# EAGLE library part 662012236022 (library Wire_to_Board_Connectors_rev15d)
WR-MPC3 3.00mm Male Dual Row SMT Angled Header with Plastic Pegs, 12 Pins=>Code : Con_WTB_MPC3_2_PCB_SMT_662012236022 <http://katalog.we-online.de/media/thumbs2/eican/thb_Con_WTB_MPC3_2_PCB_SMT_6620xx236022_pf2.jpg> Details see: http://katalog.we-online.de/en/em/662_0xx_236_022 Created 2014-06-06, Karrer Zheng 2014 (C) Würth Elektronik
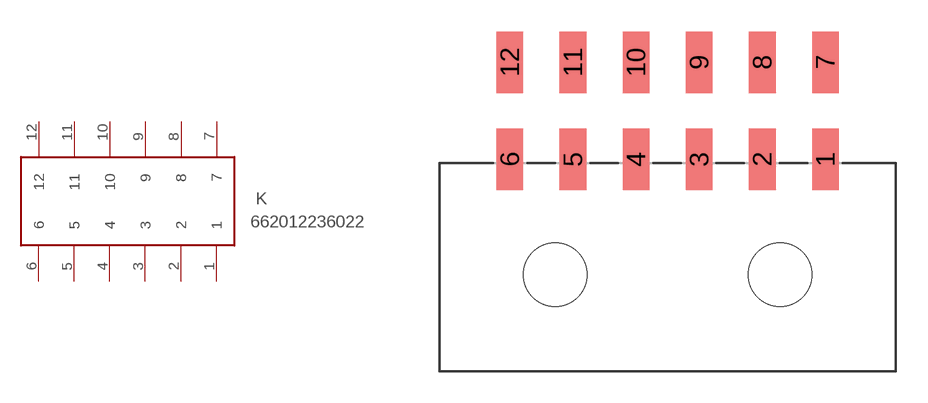
[diagram p366: symbol with the pads of 662012236022; footprint 662012236022]

Designator prefix K

## 662012236022  [662012236022]
1  1  pas
2  2  pas
3  3  pas
4  4  pas
5  5  pas
6  6  pas
7  7  hiz
8  8  pas
9  9  pas
10  10  pas
11  11  pas
12  12  pas

## Footprint 662012236022 (pad centres in mm)
WR-MPC3 3.00mm Male Dual Row SMT Angled Header with Plastic Pegs, 12 Pins
smd 1.27 x 2.92: 1 7.5,5.48; 2 4.5,5.48; 3 1.5,5.48; 4 -1.5,5.48; 5 -4.5,5.48; 6 -7.5,5.48; 7 7.5,10.1; 8 4.5,10.1; 9 1.5,10.1; 10 -1.5,10.1; 11 -4.5,10.1; 12 -7.5,10.1
hole 3 at 5.34,0
hole 3 at -5.34,0